# Altium footprint library CircuitOUT.PcbLib: 10 footprints
Each footprint in its own frame and in the unit in brackets; x right, y up, seen from the top. Pads: shape width x height; smd on the part's side, far side on the other; paste and mask are expansions set on the pad; w line width, h text height; cw(c..) or ccw(c..) is an arc to the next point about the centre after c.
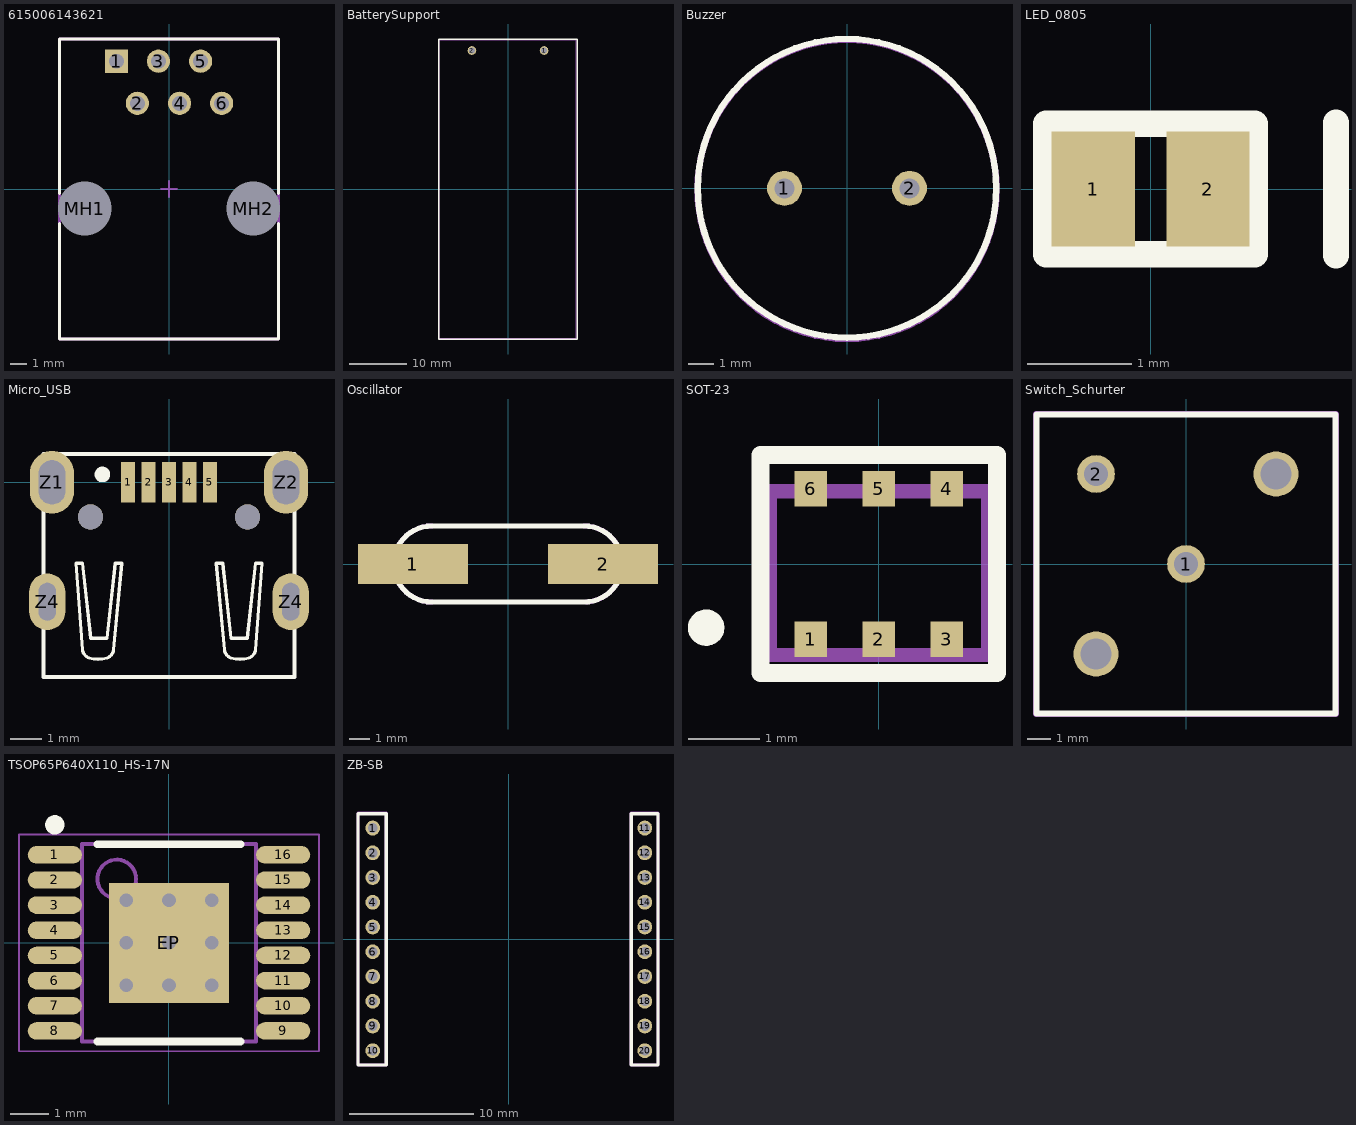
[diagram p0: the footprints below, top view; thin cyan lines are the x and y axes]

## 615006143621 [mm] "Modular Jack Horizontal Plastic 6P6C Tab Down"
height 12.57
pads (8):
  rect 1.4x1.4 hole 0.9: 1(-3.175,7.71)
  round 1.4 hole 0.9: 2(-1.905,5.17) 3(-0.635,7.71) 4(0.635,5.17) 5(1.905,7.71) 6(3.175,5.17)
  round 3.15 hole 3.25 unplated: MH1(-5.08,-1.18) MH2(5.08,-1.18)
Top Overlay:
  lines w0.2: -6.605,-2.09 -6.605,-9.05 6.605,-9.05 6.605,-2.09 ; -6.605,-0.26 -6.605,9.05 6.605,9.05 6.605,-0.26
Mechanical 13:
  lines w0.2: -6.605,-9.05 -6.605,9.05 6.605,9.05 6.605,-9.05 -6.605,-9.05
Mechanical 15:
  lines w0.1: -0.5,0 0.5,0 ; 0,-0.5 0,0.5
3D body "615006143621.stp": height 12.68, standoff -3.24, extent -6.685,-9.05 6.685,9.05

## BatterySupport [mm] "Battery Support 2 x 1.5V type AAA"
height 3.5
pads (2):
  round 1.5 hole 1: 1(6.25,24) 2(-6.25,24)
Top Overlay:
  lines w0.254: -12,-26 12,-26 12,26 -12,26 -12,-26
Mechanical 13:
  lines w0.2: -11.938,-25.908 -11.938,25.908 11.811,25.908 11.811,-25.908 -11.938,-25.908
3D body: height 13, standoff 0, extent -12,-26 12,25.908

## Buzzer [mm] "Buzzer d_12mm"
height 3.5
pads (2):
  round 1.4 hole 0.8: 1(-2.5,0) 2(2.5,0)
Top Overlay:
  circle w0.254: c0,0 r5.969
Mechanical 13:
  circle w0.254: c0,-0.047 r5.978
3D body: height 6.5, standoff 0.5, extent -5.969,-5.715 5.969,5.715

## LED_0805 [mm] "LED_0805"
height 3.5
pads (2):
  rect 0.8x1.1 smd: 1(-0.55,0) 2(0.55,0)
Top Overlay:
  lines w0.254: 1.778,-0.635 1.778,0.635 ; -1,-0.625 -1,0.625 1,0.625 1,-0.625 -1,-0.625
Mechanical 13:
  lines w0.2: -1.016,-0.635 1.016,-0.635 1.016,0.635 -1.016,0.635 -1.016,-0.635
3D body: height 1.25, standoff 0, extent -1.016,-0.635 1.016,0.635

## Micro_USB [mm] "WR-COM_USB_Micro Type B_Horizontal_SMT Micro Type B Horizontal SMT - 3A current at Pin1 & Pin 5 - with Pegs and THT shielding Pins  - T&R Packaging"
height 2.6
pads (11):
  rect 0.45x1.3 smd: 1(-1.3,0) 2(-0.65,0) 3(0,0) 4(0.65,0) 5(1.3,0)
  oval 1.4x2 hole 0.85 slot 1.4 at 90 deg: Z1(-3.725,0) Z2(3.725,0)
  oval 1.15x1.8 hole 0.55 slot 1.2 at 90 deg: Z4(-3.875,-3.8) Z4(3.875,-3.8)
  round 0.8 hole 0.8 unplated: ""(-2.5,-1.1) ""(2.5,-1.1)
Top Overlay:
  circle w0.254: c-2.12,0.25 r0.12
  lines w0.102: -2.751,-5.328 -2.959,-2.577 -2.751,-2.577 -2.492,-4.965 -1.973,-4.965 -1.713,-2.577 -1.505,-2.577 -1.765,-5.328 ; -2.751,-5.328 ccw(c-2.457,-5.306) -2.544,-5.588 ccw(c-2.258,-4.657) -1.973,-5.588 ccw(c-2.059,-5.306) -1.765,-5.328 ; 1.765,-5.328 1.505,-2.577 1.713,-2.577 1.973,-4.965 2.492,-4.965 2.751,-2.577 2.959,-2.577 2.751,-5.328 ; 1.765,-5.328 ccw(c2.059,-5.306) 1.973,-5.588 ccw(c2.258,-4.657) 2.544,-5.588 ccw(c2.457,-5.306) 2.751,-5.328
  lines w0.127: -4,-6.2 -4,0.9 4,0.9 4,-6.2 -4,-6.2
3D body "629105150521.stp": height 2.67, standoff -0.89, extent -4.001,-6.25 3.999,0.353

## Oscillator [mm] "Oscillator 8MHz"
height 3.5
pads (2):
  rect 5.5x2 smd: 1(-4.75,0) 2(4.75,0)
Top Overlay:
  lines w0.254: -3.8,-1.9 cw(c-3.81,0) -3.8,1.9 3.8,1.9 cw(c3.81,0) 3.8,-1.9 -3.8,-1.9
Mechanical 13:
  lines w0.2: -3.8,-1.9 3.8,-1.9 ; -3.8,1.9 3.8,1.9
  lines w0.254: -3.8,-1.9 cw(c-3.81,0) -3.8,1.9 ; 3.8,1.9 cw(c3.81,0) 3.937,-1.896
3D body: height 3.7, standoff 0.7, extent -5.715,-1.9 5.715,1.9

## SOT-23 [mm] "LT1790  SOT-23"
height 3.5
pads (6):
  rect 0.45x0.5 smd: 1(-0.95,-1.05) 2(0,-1.05) 3(0.95,-1.05) 4(0.95,1.05) 5(0,1.05) 6(-0.95,1.05)
Top Overlay:
  circle w0.254: c-2.413,-0.889 r0.127
  lines w0.254: -1.651,-1.524 1.651,-1.524 1.651,1.524 -1.651,1.524 -1.651,-1.524
Mechanical 13:
  lines w0.2: -1.524,-1.27 -1.524,1.016 1.524,1.016 1.524,-1.27 -1.524,-1.27
3D body: height 1.25, standoff 0, extent -1.524,-1.143 1.524,1.05

## Switch_Schurter [mm] "switch 12.7x12.7"
height 3.5
pads (4):
  round 1.6 hole 1: 1(0,0) 2(-3.81,3.81)
  round 1.9 hole 1.3: " "(-3.81,-3.81) " "(3.81,3.81)
Top Overlay:
  lines w0.254: -6.325,-6.325 6.325,-6.325 6.325,6.325 -6.325,6.325 -6.325,-6.325
Mechanical 13:
  lines w0.254: -6.35,-6.35 6.35,-6.35 6.35,6.35 -6.35,6.35 -6.35,-6.35
3D body: height 17.5, standoff 4.4, extent -3.302,-3.302 3.302,3.302
3D body: height 4.4, standoff 0, extent -6.35,-6.35 6.35,6.223

## TSOP65P640X110_HS-17N [mm] "TSOP, 16-Leads, Body 5.00x4.40mm, Pitch 0.65mm, Thermal Pad 3.10x3.10mm, IPC Medium Density"
height 1.1
pads (17):
  oval 1.4x0.45 smd: 1(-2.95,2.275) 2(-2.95,1.625) 3(-2.95,0.975) 4(-2.95,0.325) 5(-2.95,-0.325) 6(-2.95,-0.975) 7(-2.95,-1.625) 8(-2.95,-2.275) 9(2.95,-2.275) 10(2.95,-1.625) 11(2.95,-0.975) 12(2.95,-0.325) 13(2.95,0.325) 14(2.95,0.975) 15(2.95,1.625) 16(2.95,2.275)
  rect 3.1x3.1 smd: EP(0,0)
via 1.1,-1.1 diameter 0.65 hole 0.35
via 0,-1.1 diameter 0.65 hole 0.35
via -1.1,-1.1 diameter 0.65 hole 0.35
via 1.1,0 diameter 0.65 hole 0.35
via 0,0 diameter 0.65 hole 0.35
via -1.1,0 diameter 0.65 hole 0.35
via 1.1,1.1 diameter 0.65 hole 0.35
via 0,1.1 diameter 0.65 hole 0.35
via -1.1,1.1 diameter 0.65 hole 0.35
Top Overlay:
  circle w0.25: c-2.95,3.05 r0.125
  lines w0.2: -1.85,-2.55 1.85,-2.55 ; -1.85,2.55 1.85,2.55
Mechanical 13:
  circle w0.1: c-1.35,1.65 r0.5
  lines w0.1: -2.25,-2.55 2.25,-2.55 2.25,2.55 -2.25,2.55 -2.25,-2.55
Mechanical 15:
  lines w0.05: -3.875,-2.8 3.875,-2.8 3.875,2.8 -3.875,2.8 -3.875,-2.8
  lines w0.1: -0.5,0 0.5,0 ; 0,-0.5 0,0.5
3D body "TSOP65P640X110_HS-17N.step": height 1.1, standoff 0, extent -3.187,-2.55 3.187,2.55

## ZB-SB [mm] "Header"
height 3.5
pads (20):
  round 1.2 hole 0.8: 1(-11,9) 2(-11,7) 3(-11,5) 4(-11,3) 5(-11,1) 6(-11,-1) 7(-11,-3) 8(-11,-5) 9(-11,-7) 10(-11,-9) 11(11,9) 12(11,7) 13(11,5) 14(11,3) 15(11,1) 16(11,-1) 17(11,-3) 18(11,-5) 19(11,-7) 20(11,-9)
Top Overlay:
  lines w0.254: -12.192,-10.16 -12.192,10.16 -10.922,10.16 -9.906,10.16 -9.906,-10.16 -12.192,-10.16 ; 9.906,-10.16 9.906,10.16 12.065,10.16 12.065,-10.16 9.906,-10.16
Mechanical 13:
  lines w0.254: -12.192,-10.16 -12.192,10.224 -9.906,10.224 -9.906,-10.16 -12.192,-10.16 ; 9.906,-10.16 9.906,10.224 12.065,10.224 12.065,-10.16 9.906,-10.16
3D body: height 6, standoff 0, extent -12.065,-10.224 -10.033,10.16
3D body: height 6, standoff 0, extent 10.033,-10.224 12.065,10.16